# EAGLE library part 3220-20-0200 (library con-cnc)
BOX HEADER, 0.050 20 POS
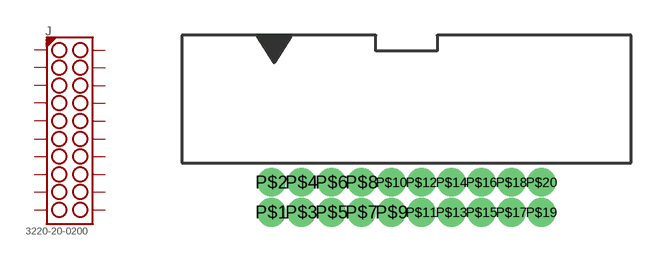
[diagram p1: symbol with the pads of 3220-20-0200; footprint 3220-20-0200]

Designator prefix J

## 3220-20-0200 (DIGIKEY: 1175-1670-ND; MFR: cnc tech; MPN: 220-20-0200-00)  [3220-20-0200]
P$1  1
P$2  2
P$3  3
P$4  4
P$5  5
P$6  6
P$7  7
P$8  8
P$9  9
P$10  10
P$11  11
P$12  12
P$13  13
P$14  14
P$15  15
P$16  16
P$17  17
P$18  18
P$19  19
P$20  20

## Footprint 3220-20-0200 (pad centres in mm)
drill 0.7: P$1 -5.715,-0.635; P$2 -5.715,0.635; P$3 -4.445,-0.635; P$4 -4.445,0.635; P$5 -3.175,-0.635; P$6 -3.175,0.635; P$7 -1.905,-0.635; P$8 -1.905,0.635; P$9 -0.635,-0.635; P$10 -0.635,0.635; P$11 0.635,-0.635; P$12 0.635,0.635; P$13 1.905,-0.635; P$14 1.905,0.635; P$15 3.175,-0.635; P$16 3.175,0.635; P$17 4.445,-0.635; P$18 4.445,0.635; P$19 5.715,-0.635; P$20 5.715,0.635